# Altium schematic symbol library 08055C104JAT2A.SchLib: 1 symbol
Pins are listed as number, name and electrical type; pins without a type are passive.

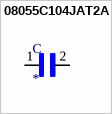
[diagram p0: symbol 08055C104JAT2A]

## 08055C104JAT2A
designator C
0.1ÂµF Â±5% 50V Ceramic Capacitor X7R 0805 _2012 Metric_; MP: 08055C104JAT2A; MF: AVX Interconnect / Elco; Package: 2012 AVX; Price: None; Availability: Unavailable; SnapEDA_Link: https://www.snapeda.com/parts/08055C104JAT2A/AVX%20Interconnect%20/%20Elco/view-part/4774/?ref=snap; Value: *
footprint CAPC2012X94N
pins: 1, 2